# Altium schematic symbol library THD Voltage Reference and Regulators.SchLib: 227 symbols (part 1 of 2)
Pins are listed as number, name and electrical type; pins without a type are passive.

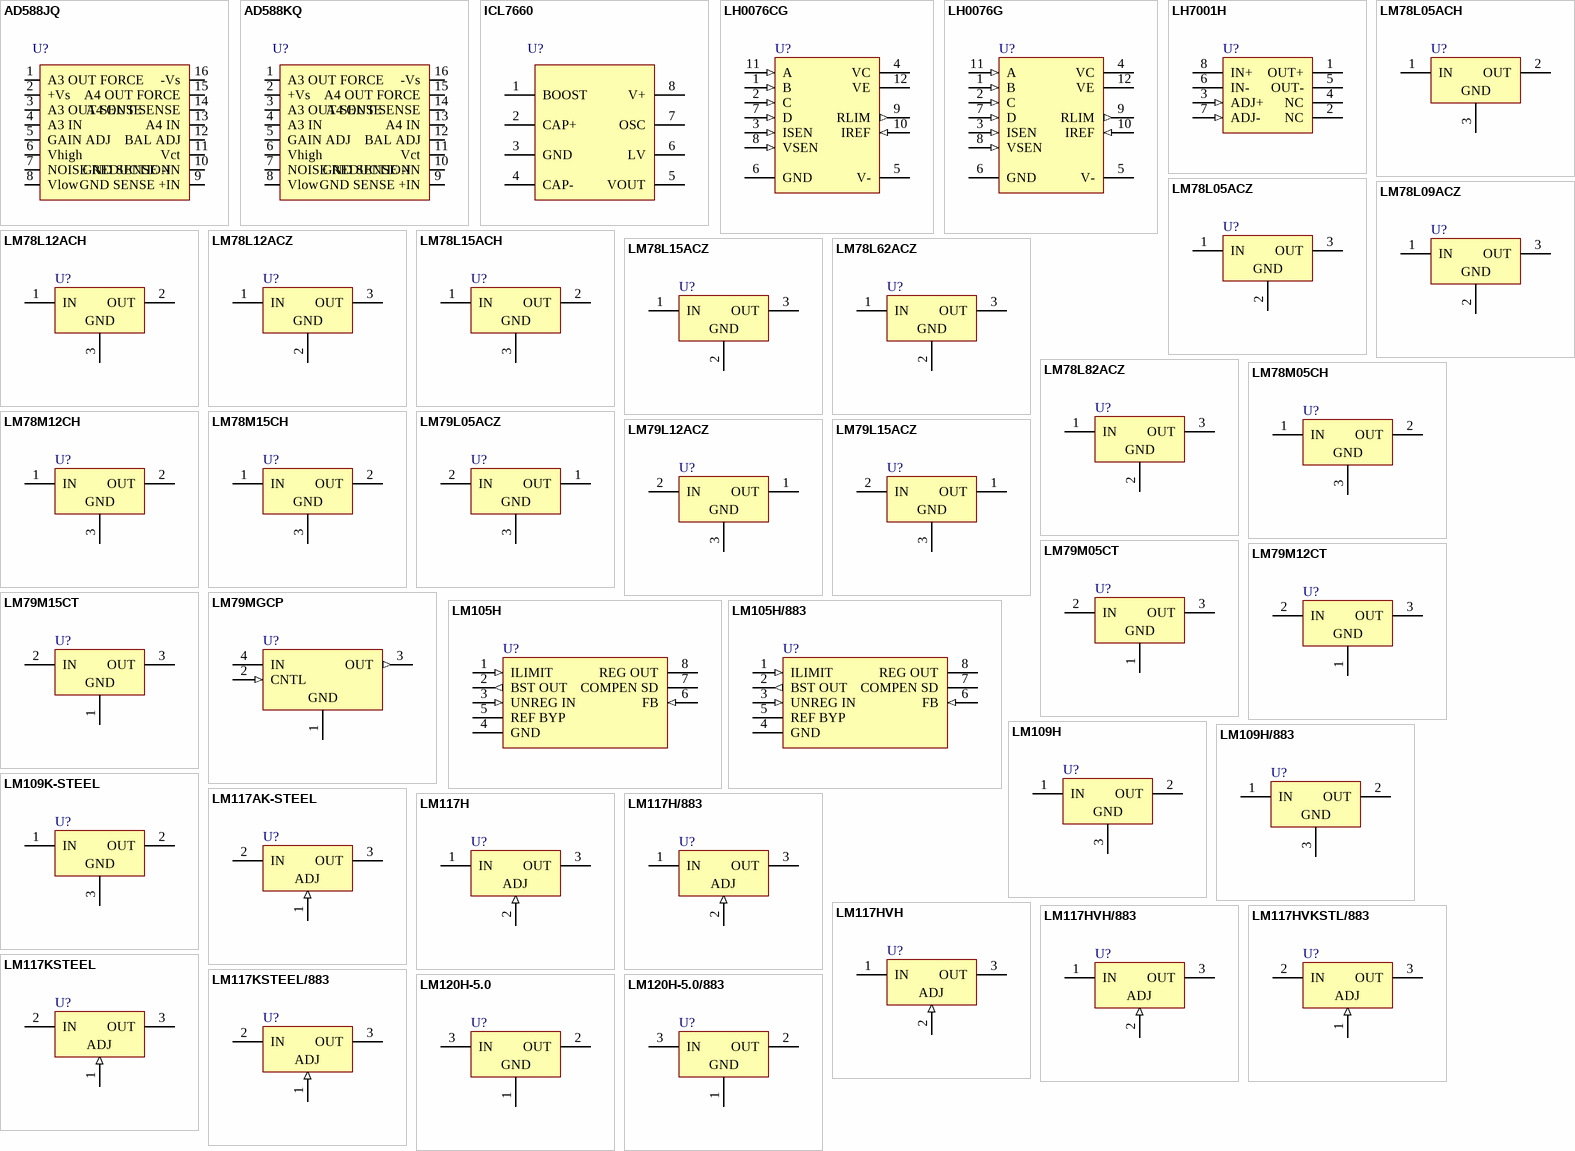
[diagram p0: symbols AD588JQ to LM120H-5.0/883]

## AD588JQ
designator U?
Multiple Output, High Precision, / Dual-Tracking Reference
footprint DIP16-300 (DIP, Molded; 16 Leads; Row Spacing 7.62 mm; Pitch 2.54 mm)
pins: 1 A3 OUT FORCE, 2 +Vs, 3 A3 OUT SENSE, 4 A3 IN, 5 GAIN ADJ, 6 Vhigh, 7 NOISE REDUCTION, 8 Vlow, 9 GND SENSE +IN, 10 GND SENSE -IN, 11 Vct, 12 BAL ADJ, 13 A4 IN, 14 A4 OUT SENSE, 15 A4 OUT FORCE, 16 -Vs

## AD588KQ
designator U?
Multiple Output, High Precision, / Dual-Tracking Reference
footprint DIP16-300 (DIP, Molded; 16 Leads; Row Spacing 7.62 mm; Pitch 2.54 mm)
pins: 1 A3 OUT FORCE, 2 +Vs, 3 A3 OUT SENSE, 4 A3 IN, 5 GAIN ADJ, 6 Vhigh, 7 NOISE REDUCTION, 8 Vlow, 9 GND SENSE +IN, 10 GND SENSE -IN, 11 Vct, 12 BAL ADJ, 13 A4 IN, 14 A4 OUT SENSE, 15 A4 OUT FORCE, 16 -Vs

## ICL7660
designator U?
Switched-Capacitor Voltage Converters
footprint DIP8-300 (DIP; 8 Leads; Row Spacing 7.62 mm; Pitch 2.54 mm)
pins: 1 BOOST (power), 2 CAP+ (power), 3 GND, 4 CAP-, 5 VOUT, 6 LV, 7 OSC, 8 V+

## LH0076CG
designator U?
Negative Precision Programmable Regulator; Manufacturer: National Semiconductor; Class: Power Management; SubClass: Voltage Regulator; Published: 15/04/2002; Publisher: Altium Hobart Technology Centre
footprint QCAN-12/D15.5
pins: 1 B (in), 2 C (in), 3 ISEN (in), 4 VC (power), 5 V- (power), 6 GND (power), 7 D (in), 8 VSEN (in), 9 RLIM (out), 10 IREF (in), 11 A (in), 12 VE (power)

## LH0076G
designator U?
Negative Precision Programmable Regulator; Manufacturer: National Semiconductor; Class: Power Management; SubClass: Voltage Regulator; Published: 15/04/2002; Publisher: Altium Hobart Technology Centre
footprint QCAN-12/D15.5
pins: 1 B (in), 2 C (in), 3 ISEN (in), 4 VC (power), 5 V- (power), 6 GND (power), 7 D (in), 8 VSEN (in), 9 RLIM (out), 10 IREF (in), 11 A (in), 12 VE (power)

## LH7001H
designator U?
Positive / Negative Adjustable Regulator; Manufacturer: National Semiconductor; Class: Power Management; SubClass: Voltage Regulator; Published: 15/04/2002; Publisher: Altium Hobart Technology Centre
footprint CAN-8/Y1.4
pins: 1 OUT+ (power), 2 NC, 3 ADJ+ (in), 4 NC, 5 OUT- (power), 6 IN- (power), 7 ADJ- (in), 8 IN+ (power)

## LM78L05ACH
designator U?
3-Terminal Positive Regulator; Manufacturer: National Semiconductor; Class: Power Management; SubClass: Voltage Regulator; Note: Case is connected to GND; Published: 15/04/2002; Publisher: Altium Hobart Technology Centre
footprint CAN-3/Y1.4
pins: 1 IN (power), 2 OUT (power), 3 GND (power)

## LM78L05ACZ
designator U?
3-Terminal Positive Regulator; Manufacturer: National Semiconductor; Class: Power Management; SubClass: Voltage Regulator; Published: 15/04/2002; Publisher: Altium Hobart Technology Centre
footprint BCY-W3/E3.7
pins: 1 IN (power), 2 GND (power), 3 OUT (power)

## LM78L09ACZ
designator U?
3-Terminal Positive Regulator; Manufacturer: National Semiconductor; Class: Power Management; SubClass: Voltage Regulator; Published: 15/04/2002; Publisher: Altium Hobart Technology Centre
footprint BCY-W3/E3.7
pins: 1 IN (power), 2 GND (power), 3 OUT (power)

## LM78L12ACH
designator U?
3-Terminal Positive Regulator; Manufacturer: National Semiconductor; Class: Power Management; SubClass: Voltage Regulator; Note: Case is connected to GND; Published: 15/04/2002; Publisher: Altium Hobart Technology Centre
footprint CAN-3/Y1.4
pins: 1 IN (power), 2 OUT (power), 3 GND (power)

## LM78L12ACZ
designator U?
3-Terminal Positive Regulator; Manufacturer: National Semiconductor; Class: Power Management; SubClass: Voltage Regulator; Published: 15/04/2002; Publisher: Altium Hobart Technology Centre
footprint BCY-W3/E3.7
pins: 1 IN (power), 2 GND (power), 3 OUT (power)

## LM78L15ACH
designator U?
3-Terminal Positive Regulator; Manufacturer: National Semiconductor; Class: Power Management; SubClass: Voltage Regulator; Note: Case is connected to GND; Published: 15/04/2002; Publisher: Altium Hobart Technology Centre
footprint CAN-3/Y1.4
pins: 1 IN (power), 2 OUT (power), 3 GND (power)

## LM78L15ACZ
designator U?
3-Terminal Positive Regulator; Manufacturer: National Semiconductor; Class: Power Management; SubClass: Voltage Regulator; Published: 15/04/2002; Publisher: Altium Hobart Technology Centre
footprint BCY-W3/E3.7
pins: 1 IN (power), 2 GND (power), 3 OUT (power)

## LM78L62ACZ
designator U?
3-Terminal Positive Regulator; Manufacturer: National Semiconductor; Class: Power Management; SubClass: Voltage Regulator; Published: 15/04/2002; Publisher: Altium Hobart Technology Centre
footprint BCY-W3/E3.7
pins: 1 IN (power), 2 GND (power), 3 OUT (power)

## LM78L82ACZ
designator U?
3-Terminal Positive Regulator; Manufacturer: National Semiconductor; Class: Power Management; SubClass: Voltage Regulator; Published: 15/04/2002; Publisher: Altium Hobart Technology Centre
footprint BCY-W3/E3.7
pins: 1 IN (power), 2 GND (power), 3 OUT (power)

## LM78M05CH
designator U?
3-Terminal Positive Voltage Regulator; Manufacturer: National Semiconductor; Class: Power Management; Note: Case is connected to GND; Published: 15/04/2002; Publisher: Altium Hobart Technology Centre; SubClass: Voltage Regulator
footprint CAN-3/Y1.4
pins: 1 IN (power), 2 OUT (power), 3 GND (power)

## LM78M12CH
designator U?
3-Terminal Positive Voltage Regulator; Manufacturer: National Semiconductor; Class: Power Management; Note: Case is connected to GND; Published: 15/04/2002; Publisher: Altium Hobart Technology Centre; SubClass: Voltage Regulator
footprint CAN-3/Y1.4
pins: 1 IN (power), 2 OUT (power), 3 GND (power)

## LM78M15CH
designator U?
3-Terminal Positive Voltage Regulator; Manufacturer: National Semiconductor; Class: Power Management; Note: Case is connected to GND; Published: 15/04/2002; Publisher: Altium Hobart Technology Centre; SubClass: Voltage Regulator
footprint CAN-3/Y1.4
pins: 1 IN (power), 2 OUT (power), 3 GND (power)

## LM79L05ACZ
designator U?
3-Terminal Negative Regulator; Manufacturer: National Semiconductor; Class: Power Management; SubClass: Voltage Regulator; Published: 15/04/2002; Publisher: Altium Hobart Technology Centre
footprint BCY-W3/E3.7
pins: 1 OUT (power), 2 IN (power), 3 GND (power)

## LM79L12ACZ
designator U?
3-Terminal Negative Regulator; Manufacturer: National Semiconductor; Class: Power Management; SubClass: Voltage Regulator; Published: 15/04/2002; Publisher: Altium Hobart Technology Centre
footprint BCY-W3/E3.7
pins: 1 OUT (power), 2 IN (power), 3 GND (power)

## LM79L15ACZ
designator U?
3-Terminal Negative Regulator; Manufacturer: National Semiconductor; Class: Power Management; SubClass: Voltage Regulator; Published: 15/04/2002; Publisher: Altium Hobart Technology Centre
footprint BCY-W3/E3.7
pins: 1 OUT (power), 2 IN (power), 3 GND (power)

## LM79M05CT
designator U?
3-Terminal Negative Regulator; Manufacturer: National Semiconductor; Class: Power Management; SubClass: Voltage Regulator; Note: Tab is connected to Input; Published: 15/04/2002; Publisher: Altium Hobart Technology Centre
footprint TO-220AB-Horizontal (TO, Thru-Hole, Vertical, Heatsink Mounted; 3 In-Line Leads; Pitch 2.54 mm)
footprint TO-220AB-Vertical (TO, Thru-Hole, Vertical, Heatsink Mounted; 3 In-Line Leads; Pitch 2.54 mm)
pins: 1 GND (power), 2 IN (power), 3 OUT (power)

## LM79M12CT
designator U?
3-Terminal Negative Regulator; Manufacturer: National Semiconductor; Class: Power Management; SubClass: Voltage Regulator; Note: Tab is connected to Input; Published: 15/04/2002; Publisher: Altium Hobart Technology Centre
footprint TO-220AB-Horizontal (TO, Thru-Hole, Vertical, Heatsink Mounted; 3 In-Line Leads; Pitch 2.54 mm)
footprint TO-220AB-Vertical (TO, Thru-Hole, Vertical, Heatsink Mounted; 3 In-Line Leads; Pitch 2.54 mm)
pins: 1 GND (power), 2 IN (power), 3 OUT (power)

## LM79M15CT
designator U?
3-Terminal Negative Regulator; Manufacturer: National Semiconductor; Class: Power Management; SubClass: Voltage Regulator; Note: Tab is connected to Input; Published: 15/04/2002; Publisher: Altium Hobart Technology Centre
footprint TO-220AB-Horizontal (TO, Thru-Hole, Vertical, Heatsink Mounted; 3 In-Line Leads; Pitch 2.54 mm)
footprint TO-220AB-Vertical (TO, Thru-Hole, Vertical, Heatsink Mounted; 3 In-Line Leads; Pitch 2.54 mm)
pins: 1 GND (power), 2 IN (power), 3 OUT (power)

## LM79MGCP
designator U?
4-Terminal Adjustable Voltage Regulator; Manufacturer: National Semiconductor; Class: Power Management; Note: Tab is connected to GND; Published: 15/04/2002; Publisher: Altium Hobart Technology Centre; SubClass: Voltage Regulator
footprint SFM-T4/A4.1V
pins: 1 GND (power), 2 CNTL (in), 3 OUT (out), 4 IN (power)

## LM105H
designator U?
Voltage Regulator; Manufacturer: National Semiconductor; Class: Power Management; Published: 15/04/2002; Publisher: Altium Hobart Technology Centre; SubClass: Voltage Regulator
footprint CAN-8/J.9
pins: 1 ILIMIT (in), 2 BST OUT (out), 3 UNREG IN (in), 4 GND (power), 5 REF BYP, 6 FB (in), 7 COMPEN SD, 8 REG OUT (power)

## LM105H/883
designator U?
Voltage Regulator; Manufacturer: National Semiconductor; Class: Power Management; Published: 15/04/2002; Publisher: Altium Hobart Technology Centre; SubClass: Voltage Regulator
footprint CAN-8/J.9
pins: 1 ILIMIT (in), 2 BST OUT (out), 3 UNREG IN (in), 4 GND (power), 5 REF BYP, 6 FB (in), 7 COMPEN SD, 8 REG OUT (power)

## LM109H
designator U?
5-Volt Regulator; Manufacturer: National Semiconductor; Class: Power Management; SubClass: Voltage Regulator; Note: Case is GND.; Published: 15/04/2002; Publisher: Altium Hobart Technology Centre
footprint CAN-3/Y1.4
pins: 1 IN (power), 2 OUT (power), 3 GND (power)

## LM109H/883
designator U?
5-Volt Regulator; Manufacturer: National Semiconductor; Class: Power Management; SubClass: Voltage Regulator; Note: Case is GND.; Published: 15/04/2002; Publisher: Altium Hobart Technology Centre
footprint CAN-3/Y1.4
pins: 1 IN (power), 2 OUT (power), 3 GND (power)

## LM109K-STEEL
designator U?
5-Volt Regulator; Manufacturer: National Semiconductor; Class: Power Management; SubClass: Voltage Regulator; Note: Case is GND.; Published: 15/04/2002; Publisher: Altium Hobart Technology Centre
footprint MBFM-P2/P7.25
pins: 1 IN (power), 2 OUT (power), 3 GND (power)

## LM117AK-STEEL
designator U?
3-Terminal Adjustable Regulator; Manufacturer: National Semiconductor; Class: Power Management; SubClass: Voltage Regulator; Note: Case is Output; Published: 15/04/2002; Publisher: Altium Hobart Technology Centre
footprint MBFM-P2/P7.25
pins: 1 ADJ (in), 2 IN (power), 3 OUT (power)

## LM117H
designator U?
3-Terminal Adjustable Regulator; Manufacturer: National Semiconductor; Class: Power Management; SubClass: Voltage Regulator; Note: Case is connected to Output; Published: 15/04/2002; Publisher: Altium Hobart Technology Centre
footprint CAN-3/Y1.4
pins: 1 IN (power), 2 ADJ (in), 3 OUT (power)

## LM117H/883
designator U?
3-Terminal Adjustable Regulator; Manufacturer: National Semiconductor; Class: Power Management; SubClass: Voltage Regulator; Note: Case is connected to Output; Published: 15/04/2002; Publisher: Altium Hobart Technology Centre
footprint CAN-3/Y1.4
pins: 1 IN (power), 2 ADJ (in), 3 OUT (power)

## LM117HVH
designator U?
3-Terminal Adjustable Regulator; Manufacturer: National Semiconductor; Class: Power Management; SubClass: Voltage Regulator; Note: Case is connected to Output; Published: 15/04/2002; Publisher: Altium Hobart Technology Centre
footprint CAN-3/Y1.4
pins: 1 IN (power), 2 ADJ (in), 3 OUT (power)

## LM117HVH/883
designator U?
3-Terminal Adjustable Regulator; Manufacturer: National Semiconductor; Class: Power Management; SubClass: Voltage Regulator; Note: Case is connected to Output; Published: 15/04/2002; Publisher: Altium Hobart Technology Centre
footprint CAN-3/Y1.4
pins: 1 IN (power), 2 ADJ (in), 3 OUT (power)

## LM117HVKSTL/883
designator U?
3-Terminal Adjustable Regulator; Manufacturer: National Semiconductor; Class: Power Management; SubClass: Voltage Regulator; Note: Case is Output; Published: 15/04/2002; Publisher: Altium Hobart Technology Centre
footprint MBFM-P2/P7.25
pins: 1 ADJ (in), 2 IN (power), 3 OUT (power)

## LM117KSTEEL
designator U?
3-Terminal Adjustable Regulator; Manufacturer: National Semiconductor; Class: Power Management; SubClass: Voltage Regulator; Note: Case is Output; Published: 15/04/2002; Publisher: Altium Hobart Technology Centre
footprint MBFM-P2/P7.25
pins: 1 ADJ (in), 2 IN (power), 3 OUT (power)

## LM117KSTEEL/883
designator U?
3-Terminal Adjustable Regulator; Manufacturer: National Semiconductor; Class: Power Management; SubClass: Voltage Regulator; Note: Case is Output; Published: 15/04/2002; Publisher: Altium Hobart Technology Centre
footprint MBFM-P2/P7.25
pins: 1 ADJ (in), 2 IN (power), 3 OUT (power)

## LM120H-5.0
designator U?
Series 3-Terminal Negative Regulator; Manufacturer: National Semiconductor; Class: Power Management; SubClass: Voltage Regulator; Note: Case is also Input; Published: 15/04/2002; Publisher: Altium Hobart Technology Centre
footprint CAN-3/Y1.4
pins: 1 GND (power), 2 OUT (power), 3 IN (power)

## LM120H-5.0/883
designator U?
Series 3-Terminal Negative Regulator; Manufacturer: National Semiconductor; Class: Power Management; SubClass: Voltage Regulator; Note: Case is connected to Input; Published: 15/04/2002; Publisher: Altium Hobart Technology Centre
footprint CAN-3/Y1.4
pins: 1 GND (power), 2 OUT (power), 3 IN (power)

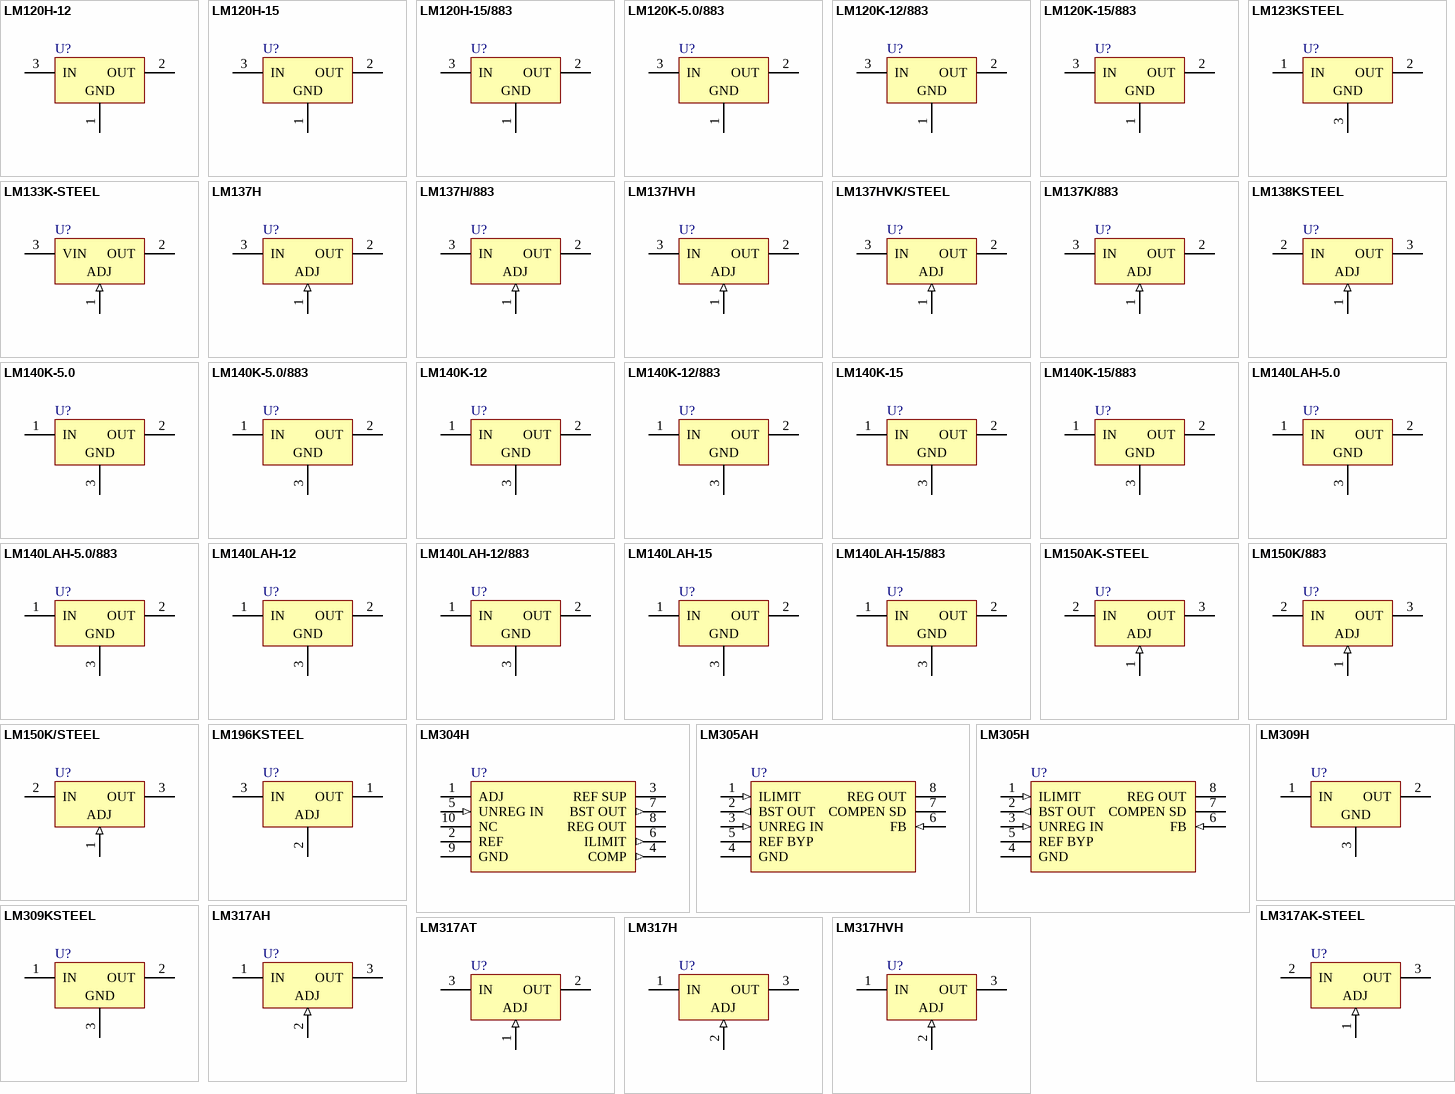
[diagram p1: symbols LM120H-12 to LM317HVH]

## LM120H-12
designator U?
Series 3-Terminal Negative Regulator; Manufacturer: National Semiconductor; Class: Power Management; SubClass: Voltage Regulator; Note: Case is also Input; Published: 15/04/2002; Publisher: Altium Hobart Technology Centre
footprint CAN-3/Y1.4
pins: 1 GND (power), 2 OUT (power), 3 IN (power)

## LM120H-15
designator U?
Series 3-Terminal Negative Regulator; Manufacturer: National Semiconductor; Class: Power Management; SubClass: Voltage Regulator; Note: Case is also Input; Published: 15/04/2002; Publisher: Altium Hobart Technology Centre
footprint CAN-3/Y1.4
pins: 1 GND (power), 2 OUT (power), 3 IN (power)

## LM120H-15/883
designator U?
Series 3-Terminal Negative Regulator; Manufacturer: National Semiconductor; Class: Power Management; SubClass: Voltage Regulator; Note: Case is also Input; Published: 15/04/2002; Publisher: Altium Hobart Technology Centre
footprint CAN-3/Y1.4
pins: 1 GND (power), 2 OUT (power), 3 IN (power)

## LM120K-5.0/883
designator U?
Series 3-Terminal Negative Regulator; Manufacturer: National Semiconductor; Class: Power Management; SubClass: Voltage Regulator; Note: Case is also Input; Published: 15/04/2002; Publisher: Altium Hobart Technology Centre
footprint MBFM-P2/P7.25
pins: 1 GND (power), 2 OUT (power), 3 IN (power)

## LM120K-12/883
designator U?
Series 3-Terminal Negative Regulator; Manufacturer: National Semiconductor; Class: Power Management; SubClass: Voltage Regulator; Note: Case is also Input; Published: 15/04/2002; Publisher: Altium Hobart Technology Centre
footprint MBFM-P2/P7.25
pins: 1 GND (power), 2 OUT (power), 3 IN (power)

## LM120K-15/883
designator U?
Series 3-Terminal Negative Regulator; Manufacturer: National Semiconductor; Class: Power Management; SubClass: Voltage Regulator; Note: Case is also Input; Published: 15/04/2002; Publisher: Altium Hobart Technology Centre
footprint MBFM-P2/P7.25
pins: 1 GND (power), 2 OUT (power), 3 IN (power)

## LM123KSTEEL
designator U?
3 Amp, 5 Volt Positive Regulator; Manufacturer: National Semiconductor; Class: Power Management; SubClass: Voltage Regulator; Note: Case is also Ground; Published: 15/04/2002; Publisher: Altium Hobart Technology Centre
footprint MBFM-P2/P7.25
pins: 1 IN (power), 2 OUT (power), 3 GND (power)

## LM133K-STEEL
designator U?
3 Amp Adjustable Negative Regulator; Manufacturer: National Semiconductor; Class: Power Management; SubClass: Voltage Regulator; Note: Case is -Vin,; Published: 15/04/2002; Publisher: Altium Hobart Technology Centre
footprint MBFM-P2/P7.25
pins: 1 ADJ (in), 2 OUT (power), 3 VIN (power)

## LM137H
designator U?
3-Terminal Adjustable Negative Regulator; Manufacturer: National Semiconductor; Class: Power Management; SubClass: Voltage Regulator; Note: Case is connected to Input; Published: 15/04/2002; Publisher: Altium Hobart Technology Centre
footprint CAN-3/Y1.4
pins: 1 ADJ (in), 2 OUT (power), 3 IN (power)

## LM137H/883
designator U?
3-Terminal Adjustable Negative Regulator; Manufacturer: National Semiconductor; Class: Power Management; SubClass: Voltage Regulator; Note: Case is connected to Input; Published: 15/04/2002; Publisher: Altium Hobart Technology Centre
footprint CAN-3/Y1.4
pins: 1 ADJ (in), 2 OUT (power), 3 IN (power)

## LM137HVH
designator U?
3-Terminal Adjustable Negative Regulator; Manufacturer: National Semiconductor; Class: Power Management; SubClass: Voltage Regulator; Note: Case is connected to Input; Published: 15/04/2002; Publisher: Altium Hobart Technology Centre
footprint CAN-3/Y1.4
pins: 1 ADJ (in), 2 OUT (power), 3 IN (power)

## LM137HVK/STEEL
designator U?
3-Terminal Adjustable Negative Regulator; Manufacturer: National Semiconductor; Class: Power Management; SubClass: Voltage Regulator; Note: Case is Input; Published: 15/04/2002; Publisher: Altium Hobart Technology Centre
footprint MBFM-P2/P7.25
pins: 1 ADJ (in), 2 OUT (power), 3 IN (power)

## LM137K/883
designator U?
3-Terminal Adjustable Negative Regulator; Manufacturer: National Semiconductor; Class: Power Management; SubClass: Voltage Regulator; Published: 15/04/2002; Publisher: Altium Hobart Technology Centre
footprint MBFM-P2/P7.25
pins: 1 ADJ (in), 2 OUT (power), 3 IN (power)

## LM138KSTEEL
designator U?
5 Amp Adjustable Regulator; Manufacturer: National Semiconductor; Class: Power Management; SubClass: Voltage Regulator; Note: Case is Output; Published: 15/04/2002; Publisher: Altium Hobart Technology Centre
footprint MBFM-P2/P7.25
pins: 1 ADJ (in), 2 IN (power), 3 OUT (power)

## LM140K-5.0
designator U?
Series 3-Terminal Positive Regulator; Manufacturer: National Semiconductor; Class: Power Management; SubClass: Voltage Regulator; Note: Case is Ground; Published: 15/04/2002; Publisher: Altium Hobart Technology Centre
footprint MBFM-P2/P7.25
pins: 1 IN (power), 2 OUT (power), 3 GND (power)

## LM140K-5.0/883
designator U?
Series 3-Terminal Positive Regulator; Manufacturer: National Semiconductor; Class: Power Management; SubClass: Voltage Regulator; Note: Case is Ground; Published: 15/04/2002; Publisher: Altium Hobart Technology Centre
footprint MBFM-P2/P7.25
pins: 1 IN (power), 2 OUT (power), 3 GND (power)

## LM140K-12
designator U?
Series 3-Terminal Positive Regulator; Manufacturer: National Semiconductor; Class: Power Management; SubClass: Voltage Regulator; Note: Case is Ground; Published: 15/04/2002; Publisher: Altium Hobart Technology Centre
footprint MBFM-P2/P7.25
pins: 1 IN (power), 2 OUT (power), 3 GND (power)

## LM140K-12/883
designator U?
Series 3-Terminal Positive Regulator; Manufacturer: National Semiconductor; Class: Power Management; SubClass: Voltage Regulator; Note: Case is Ground; Published: 15/04/2002; Publisher: Altium Hobart Technology Centre
footprint MBFM-P2/P7.25
pins: 1 IN (power), 2 OUT (power), 3 GND (power)

## LM140K-15
designator U?
Series 3-Terminal Positive Regulator; Manufacturer: National Semiconductor; Class: Power Management; SubClass: Voltage Regulator; Note: Case is Ground; Published: 15/04/2002; Publisher: Altium Hobart Technology Centre
footprint MBFM-P2/P7.25
pins: 1 IN (power), 2 OUT (power), 3 GND (power)

## LM140K-15/883
designator U?
Series 3-Terminal Positive Regulator; Manufacturer: National Semiconductor; Class: Power Management; SubClass: Voltage Regulator; Note: Case is Ground; Published: 15/04/2002; Publisher: Altium Hobart Technology Centre
footprint MBFM-P2/P7.25
pins: 1 IN (power), 2 OUT (power), 3 GND (power)

## LM140LAH-5.0
designator U?
Series 3-Terminal Positive Regulator; Manufacturer: National Semiconductor; Class: Power Management; SubClass: Voltage Regulator; Note: Case is connected to GND; Published: 15/04/2002; Publisher: Altium Hobart Technology Centre
footprint CAN-3/Y1.4
pins: 1 IN (power), 2 OUT (power), 3 GND (power)

## LM140LAH-5.0/883
designator U?
Series 3-Terminal Positive Regulator; Manufacturer: National Semiconductor; Class: Power Management; SubClass: Voltage Regulator; Note: Case is connected to GND; Published: 15/04/2002; Publisher: Altium Hobart Technology Centre
footprint CAN-3/Y1.4
pins: 1 IN (power), 2 OUT (power), 3 GND (power)

## LM140LAH-12
designator U?
Series 3-Terminal Positive Regulator; Manufacturer: National Semiconductor; Class: Power Management; SubClass: Voltage Regulator; Note: Case is connected to GND; Published: 15/04/2002; Publisher: Altium Hobart Technology Centre
footprint CAN-3/Y1.4
pins: 1 IN (power), 2 OUT (power), 3 GND (power)

## LM140LAH-12/883
designator U?
Series 3-Terminal Positive Regulator; Manufacturer: National Semiconductor; Class: Power Management; SubClass: Voltage Regulator; Note: Case is connected to GND; Published: 15/04/2002; Publisher: Altium Hobart Technology Centre
footprint CAN-3/Y1.4
pins: 1 IN (power), 2 OUT (power), 3 GND (power)

## LM140LAH-15
designator U?
Series 3-Terminal Positive Regulator; Manufacturer: National Semiconductor; Class: Power Management; SubClass: Voltage Regulator; Note: Case is connected to GND; Published: 15/04/2002; Publisher: Altium Hobart Technology Centre
footprint CAN-3/Y1.4
pins: 1 IN (power), 2 OUT (power), 3 GND (power)

## LM140LAH-15/883
designator U?
Series 3-Terminal Positive Regulator; Manufacturer: National Semiconductor; Class: Power Management; SubClass: Voltage Regulator; Note: Case is connected to GND; Published: 15/04/2002; Publisher: Altium Hobart Technology Centre
footprint CAN-3/Y1.4
pins: 1 IN (power), 2 OUT (power), 3 GND (power)

## LM150AK-STEEL
designator U?
3 Amp Adjustable Regulator; Manufacturer: National Semiconductor; Class: Power Management; SubClass: Voltage Regulator; Note: Case is Output; Published: 15/04/2002; Publisher: Altium Hobart Technology Centre
footprint MBFM-P2/P7.25
pins: 1 ADJ (in), 2 IN (power), 3 OUT (power)

## LM150K/883
designator U?
3 Amp Adjustable Regulator; Manufacturer: National Semiconductor; Class: Power Management; SubClass: Voltage Regulator; Note: Case is Output.; Published: 15/04/2002; Publisher: Altium Hobart Technology Centre
footprint MBFM-P2/P7.25
pins: 1 ADJ (in), 2 IN (power), 3 OUT (power)

## LM150K/STEEL
designator U?
3 Amp Adjustable Regulator; Manufacturer: National Semiconductor; Class: Power Management; SubClass: Voltage Regulator; Note: Case is Output.; Published: 15/04/2002; Publisher: Altium Hobart Technology Centre
footprint MBFM-P2/P7.25
pins: 1 ADJ (in), 2 IN (power), 3 OUT (power)

## LM196KSTEEL
designator U?
10 Amp Adjustable Voltage Regulator; Manufacturer: National Semiconductor; Class: Power Management; Published: 15/04/2002; Publisher: Altium Hobart Technology Centre; SubClass: Voltage Regulator
footprint MBFM-P2/R13
pins: 1 OUT (power), 2 ADJ (power), 3 IN (power)

## LM304H
designator U?
Negative Regulator; Manufacturer: National Semiconductor; Class: Power Management; SubClass: Voltage Regulator; Note: Case is connected to Input; Published: 15/04/2002; Publisher: Altium Hobart Technology Centre
footprint CAN-10/X1.4
pins: 1 ADJ, 2 REF, 3 REF SUP (power), 4 COMP (out), 5 UNREG IN (in), 6 ILIMIT (out), 7 BST OUT (out), 8 REG OUT (power), 9 GND (power), 10 NC

## LM305AH
designator U?
Voltage Regulator; Manufacturer: National Semiconductor; Class: Power Management; Published: 15/04/2002; Publisher: Altium Hobart Technology Centre; SubClass: Voltage Regulator
footprint CAN-8/J.9
pins: 1 ILIMIT (in), 2 BST OUT (out), 3 UNREG IN (in), 4 GND (power), 5 REF BYP, 6 FB (in), 7 COMPEN SD, 8 REG OUT (power)

## LM305H
designator U?
Voltage Regulator; Manufacturer: National Semiconductor; Class: Power Management; Published: 15/04/2002; Publisher: Altium Hobart Technology Centre; SubClass: Voltage Regulator
footprint CAN-8/J.9
pins: 1 ILIMIT (in), 2 BST OUT (out), 3 UNREG IN (in), 4 GND (power), 5 REF BYP, 6 FB (in), 7 COMPEN SD, 8 REG OUT (power)

## LM309H
designator U?
5 Volt Regulator; Manufacturer: National Semiconductor; Class: Power Management; SubClass: Voltage Regulator; Note: Case is connected to GND; Published: 15/04/2002; Publisher: Altium Hobart Technology Centre
footprint CAN-3/Y1.4
pins: 1 IN (power), 2 OUT (power), 3 GND (power)

## LM309KSTEEL
designator U?
5 Volt Regulator; Manufacturer: National Semiconductor; Class: Power Management; SubClass: Voltage Regulator; Note: Case is GND; Published: 15/04/2002; Publisher: Altium Hobart Technology Centre
footprint MBFM-P2/P7.25
pins: 1 IN (power), 2 OUT (power), 3 GND (power)

## LM317AH
designator U?
3-Terminal Adjustable Regulator; Manufacturer: National Semiconductor; Class: Power Management; SubClass: Voltage Regulator; Note: Case is connected to Output; Published: 15/04/2002; Publisher: Altium Hobart Technology Centre
footprint CAN-3/Y1.4
pins: 1 IN (power), 2 ADJ (in), 3 OUT (power)

## LM317AK-STEEL
designator U?
3-Terminal Adjustable Regulator; Manufacturer: National Semiconductor; Class: Power Management; SubClass: Voltage Regulator; Note: Case is Output; Published: 15/04/2002; Publisher: Altium Hobart Technology Centre
footprint MBFM-P2/P7.25
pins: 1 ADJ (in), 2 IN (power), 3 OUT (power)

## LM317AT
designator U?
3-Terminal Adjustable Regulator; Manufacturer: National Semiconductor; Class: Power Management; SubClass: Voltage Regulator; Published: 15/04/2002; Publisher: Altium Hobart Technology Centre
footprint SFM-T3/A4.7V
pins: 1 ADJ (in), 2 OUT (power), 3 IN (power)

## LM317H
designator U?
3-Terminal Adjustable Regulator; Manufacturer: National Semiconductor; Class: Power Management; SubClass: Voltage Regulator; Note: Case is connected to Output; Published: 15/04/2002; Publisher: Altium Hobart Technology Centre
footprint CAN-3/Y1.4
pins: 1 IN (power), 2 ADJ (in), 3 OUT (power)

## LM317HVH
designator U?
3-Terminal Adjustable Regulator; Manufacturer: National Semiconductor; Class: Power Management; SubClass: Voltage Regulator; Note: Case is connected to Output; Published: 15/04/2002; Publisher: Altium Hobart Technology Centre
footprint CAN-3/Y1.4
pins: 1 IN (power), 2 ADJ (in), 3 OUT (power)

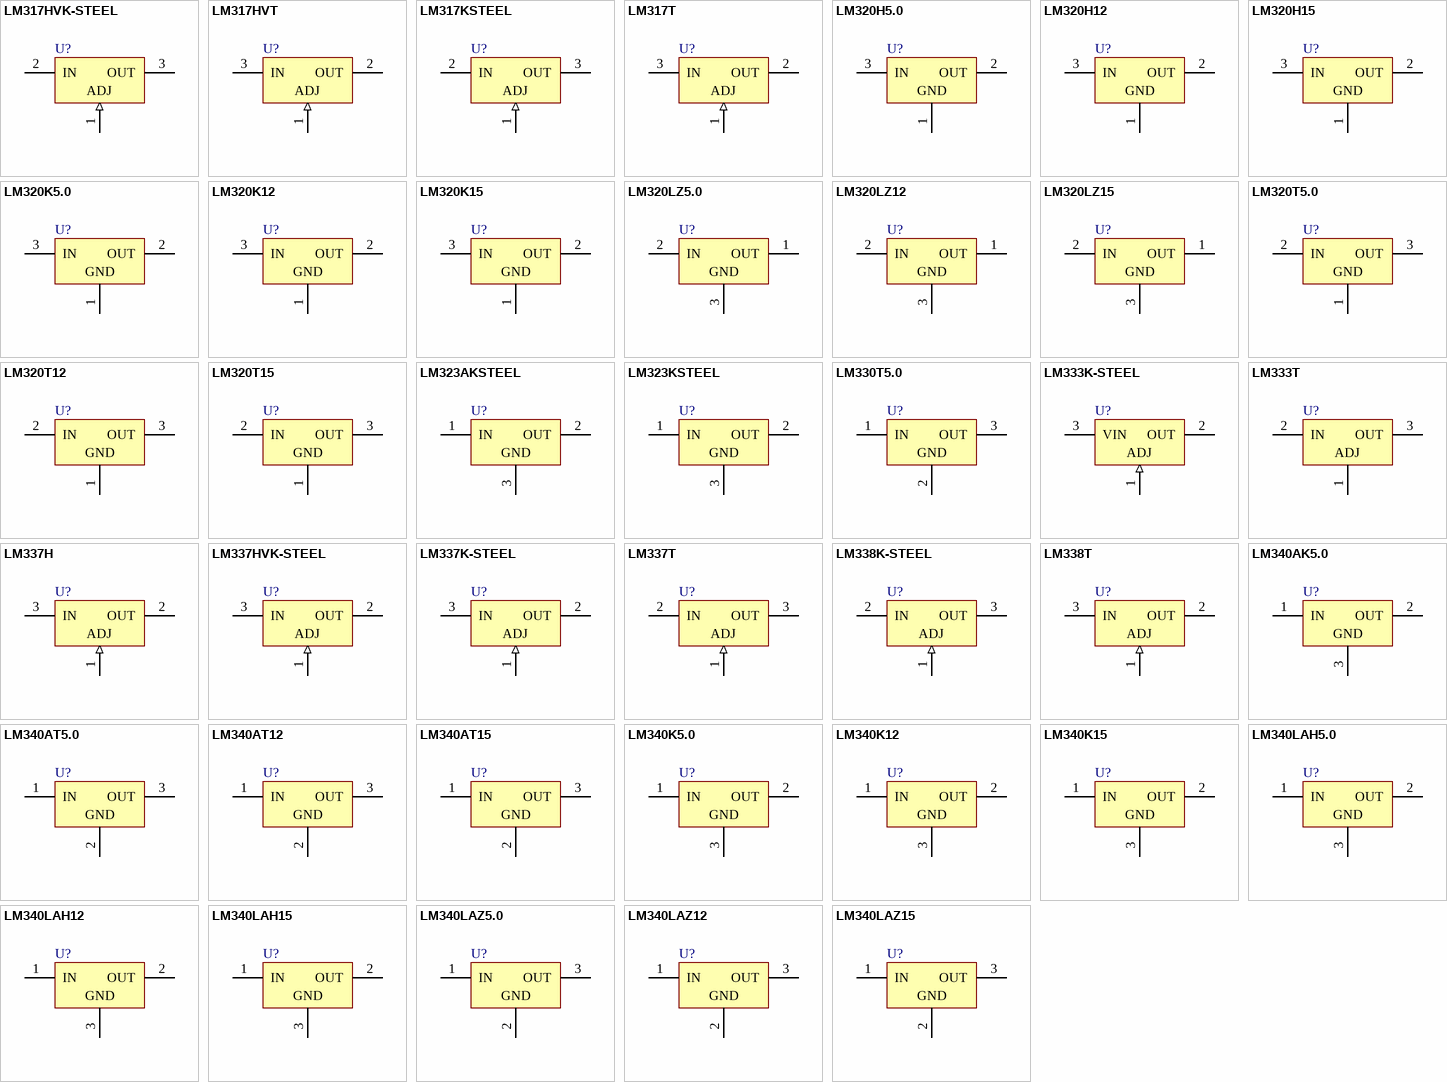
[diagram p2: symbols LM317HVK-STEEL to LM340LAZ15]

## LM317HVK-STEEL
designator U?
3-Terminal Adjustable Regulator; Manufacturer: National Semiconductor; Class: Power Management; SubClass: Voltage Regulator; Note: Case is Output; Published: 15/04/2002; Publisher: Altium Hobart Technology Centre
footprint MBFM-P2/P7.25
pins: 1 ADJ (in), 2 IN (power), 3 OUT (power)

## LM317HVT
designator U?
3-Terminal Adjustable Regulator; Manufacturer: National Semiconductor; Class: Power Management; SubClass: Voltage Regulator; Note: Tab is connected to Output; Published: 15/04/2002; Publisher: Altium Hobart Technology Centre
footprint SFM-T3/A4.7V
pins: 1 ADJ (in), 2 OUT (power), 3 IN (power)

## LM317KSTEEL
designator U?
3-Terminal Adjustable Regulator; Manufacturer: National Semiconductor; Class: Power Management; SubClass: Voltage Regulator; Note: Case is Output; Published: 15/04/2002; Publisher: Altium Hobart Technology Centre
footprint MBFM-P2/P7.25
pins: 1 ADJ (in), 2 IN (power), 3 OUT (power)

## LM317T
designator U?
3-Terminal Adjustable Regulator; Manufacturer: National Semiconductor; Class: Power Management; SubClass: Voltage Regulator; Published: 15/04/2002; Publisher: Altium Hobart Technology Centre
footprint SFM-T3/A4.7V
pins: 1 ADJ (in), 2 OUT (power), 3 IN (power)

## LM320H5.0
designator U?
Series 3-Terminal Negative Regulator; Manufacturer: National Semiconductor; Class: Power Management; SubClass: Voltage Regulator; Note: Case is also Input; Published: 15/04/2002; Publisher: Altium Hobart Technology Centre
footprint CAN-3/Y1.4
pins: 1 GND (power), 2 OUT (power), 3 IN (power)

## LM320H12
designator U?
Series 3-Terminal Negative Regulator; Manufacturer: National Semiconductor; Class: Power Management; SubClass: Voltage Regulator; Note: Case is also Input; Published: 15/04/2002; Publisher: Altium Hobart Technology Centre
footprint CAN-3/Y1.4
pins: 1 GND (power), 2 OUT (power), 3 IN (power)

## LM320H15
designator U?
Series 3-Terminal Negative Regulator; Manufacturer: National Semiconductor; Class: Power Management; SubClass: Voltage Regulator; Note: Case is also Input; Published: 15/04/2002; Publisher: Altium Hobart Technology Centre
footprint CAN-3/Y1.4
pins: 1 GND (power), 2 OUT (power), 3 IN (power)

## LM320K5.0
designator U?
Series 3-Terminal Negative Regulator; Manufacturer: National Semiconductor; Class: Power Management; SubClass: Voltage Regulator; Note: Case is also Input; Published: 15/04/2002; Publisher: Altium Hobart Technology Centre
footprint MBFM-P2/P7.25
pins: 1 GND (power), 2 OUT (power), 3 IN (power)

## LM320K12
designator U?
Series 3-Terminal Negative Regulator; Manufacturer: National Semiconductor; Class: Power Management; SubClass: Voltage Regulator; Note: Case is also Input; Published: 15/04/2002; Publisher: Altium Hobart Technology Centre
footprint MBFM-P2/P7.25
pins: 1 GND (power), 2 OUT (power), 3 IN (power)

## LM320K15
designator U?
Series 3-Terminal Negative Regulator; Manufacturer: National Semiconductor; Class: Power Management; SubClass: Voltage Regulator; Note: Case is also Input; Published: 15/04/2002; Publisher: Altium Hobart Technology Centre
footprint MBFM-P2/P7.25
pins: 1 GND (power), 2 OUT (power), 3 IN (power)

## LM320LZ5.0
designator U?
3-Terminal Negative Regulator; Manufacturer: National Semiconductor; Class: Power Management; SubClass: Voltage Regulator; Published: 15/04/2002; Publisher: Altium Hobart Technology Centre
footprint BCY-W3/E3.7
pins: 1 OUT (power), 2 IN (power), 3 GND (power)

## LM320LZ12
designator U?
3-Terminal Negative Regulator; Manufacturer: National Semiconductor; Class: Power Management; SubClass: Voltage Regulator; Published: 15/04/2002; Publisher: Altium Hobart Technology Centre
footprint BCY-W3/E3.7
pins: 1 OUT (power), 2 IN (power), 3 GND (power)

## LM320LZ15
designator U?
3-Terminal Negative Regulator; Manufacturer: National Semiconductor; Class: Power Management; SubClass: Voltage Regulator; Published: 15/04/2002; Publisher: Altium Hobart Technology Centre
footprint BCY-W3/E3.7
pins: 1 OUT (power), 2 IN (power), 3 GND (power)

## LM320T5.0
designator U?
Series 3-Terminal Negative Regulator; Manufacturer: National Semiconductor; Class: Power Management; SubClass: Voltage Regulator; Note: Tab is connected to Input; Published: 15/04/2002; Publisher: Altium Hobart Technology Centre
footprint SFM-T3/A4.7V
pins: 1 GND (power), 2 IN (power), 3 OUT (power)

## LM320T12
designator U?
Series 3-Terminal Negative Regulator; Manufacturer: National Semiconductor; Class: Power Management; SubClass: Voltage Regulator; Note: Tab is connected to Input; Published: 15/04/2002; Publisher: Altium Hobart Technology Centre
footprint SFM-T3/A4.7V
pins: 1 GND (power), 2 IN (power), 3 OUT (power)

## LM320T15
designator U?
Series 3-Terminal Negative Regulator; Manufacturer: National Semiconductor; Class: Power Management; SubClass: Voltage Regulator; Note: Tab is connected to Input; Published: 15/04/2002; Publisher: Altium Hobart Technology Centre
footprint SFM-T3/A4.7V
pins: 1 GND (power), 2 IN (power), 3 OUT (power)

## LM323AKSTEEL
designator U?
3 Amp, 5 Volt Positive Regulator; Manufacturer: National Semiconductor; Class: Power Management; SubClass: Voltage Regulator; Note: Case is GND; Published: 15/04/2002; Publisher: Altium Hobart Technology Centre
footprint MBFM-P2/P7.25
pins: 1 IN (power), 2 OUT (power), 3 GND (power)

## LM323KSTEEL
designator U?
3 Amp, 5 Volt Positive Regulator; Manufacturer: National Semiconductor; Class: Power Management; SubClass: Voltage Regulator; Note: Case is also Ground; Published: 15/04/2002; Publisher: Altium Hobart Technology Centre
footprint MBFM-P2/P7.25
pins: 1 IN (power), 2 OUT (power), 3 GND (power)

## LM330T5.0
designator U?
3-Terminal Positive Regulator; Manufacturer: National Semiconductor; Class: Power Management; SubClass: Voltage Regulator; Note: Tab is connected to GND; Published: 15/04/2002; Publisher: Altium Hobart Technology Centre
footprint SFM-T3/A4.7V
pins: 1 IN (power), 2 GND (power), 3 OUT (power)

## LM333K-STEEL
designator U?
3 Amp Adjustable Negative Regulator; Manufacturer: National Semiconductor; Class: Power Management; SubClass: Voltage Regulator; Note: Case is -Vin,; Published: 15/04/2002; Publisher: Altium Hobart Technology Centre
footprint MBFM-P2/P7.25
pins: 1 ADJ (in), 2 OUT (power), 3 VIN (power)

## LM333T
designator U?
3 Amp Adjustable Negative Regulator; Manufacturer: National Semiconductor; Class: Power Management; SubClass: Voltage Regulator; Note: Tab is -Vin; Published: 15/04/2002; Publisher: Altium Hobart Technology Centre
footprint SFM-T3/A4.7V
pins: 1 ADJ (power), 2 IN (power), 3 OUT (power)

## LM337H
designator U?
3-Terminal Adjustable Negative Regulator; Manufacturer: National Semiconductor; Class: Power Management; SubClass: Voltage Regulator; Note: Case is connected to Input; Published: 15/04/2002; Publisher: Altium Hobart Technology Centre
footprint CAN-3/Y1.4
pins: 1 ADJ (in), 2 OUT (power), 3 IN (power)

## LM337HVK-STEEL
designator U?
3-Terminal Adjustable Negative Regulator; Manufacturer: National Semiconductor; Class: Power Management; SubClass: Voltage Regulator; Published: 15/04/2002; Publisher: Altium Hobart Technology Centre
footprint MBFM-P2/P7.25
pins: 1 ADJ (in), 2 OUT (power), 3 IN (power)

## LM337K-STEEL
designator U?
3-Terminal Adjustable Negative Regulator; Manufacturer: National Semiconductor; Class: Power Management; SubClass: Voltage Regulator; Note: Case is Input; Published: 15/04/2002; Publisher: Altium Hobart Technology Centre
footprint MBFM-P2/P7.25
pins: 1 ADJ (in), 2 OUT (power), 3 IN (power)

## LM337T
designator U?
3-Terminal Adjustable Negative Regulator; Manufacturer: National Semiconductor; Class: Power Management; SubClass: Voltage Regulator; Note: Case is connected to Input; Published: 15/04/2002; Publisher: Altium Hobart Technology Centre
footprint SFM-T3/A4.7V
pins: 1 ADJ (in), 2 IN (power), 3 OUT (power)

## LM338K-STEEL
designator U?
5 Amp Adjustable Regulator; Manufacturer: National Semiconductor; Class: Power Management; SubClass: Voltage Regulator; Note: Case is Output; Published: 15/04/2002; Publisher: Altium Hobart Technology Centre
footprint MBFM-P2/P7.25
pins: 1 ADJ (in), 2 IN (power), 3 OUT (power)

## LM338T
designator U?
5 Amp Adjustable Regulator; Manufacturer: National Semiconductor; Class: Power Management; SubClass: Voltage Regulator; Note: Tab is connected to Output; Published: 15/04/2002; Publisher: Altium Hobart Technology Centre
footprint SFM-T3/A4.7V
pins: 1 ADJ (in), 2 OUT (power), 3 IN (power)

## LM340AK5.0
designator U?
Series 3-Terminal Positive Regulator; Manufacturer: National Semiconductor; Class: Power Management; SubClass: Voltage Regulator; Published: 15/04/2002; Publisher: Altium Hobart Technology Centre
footprint MBFM-P2/P7.25
pins: 1 IN (power), 2 OUT (power), 3 GND (power)

## LM340AT5.0
designator U?
Series 3-Terminal Positive Regulator; Manufacturer: National Semiconductor; Class: Power Management; SubClass: Voltage Regulator; Note: Tab is connected to GND; Published: 15/04/2002; Publisher: Altium Hobart Technology Centre
footprint SFM-T3/A4.7V
pins: 1 IN (power), 2 GND (power), 3 OUT (power)

## LM340AT12
designator U?
Series 3-Terminal Positive Regulator; Manufacturer: National Semiconductor; Class: Power Management; SubClass: Voltage Regulator; Note: Tab is connected to GND; Published: 15/04/2002; Publisher: Altium Hobart Technology Centre
footprint SFM-T3/A4.7V
pins: 1 IN (power), 2 GND (power), 3 OUT (power)

## LM340AT15
designator U?
Series 3-Terminal Positive Regulator; Manufacturer: National Semiconductor; Class: Power Management; SubClass: Voltage Regulator; Note: Tab is connected to GND; Published: 15/04/2002; Publisher: Altium Hobart Technology Centre
footprint SFM-T3/A4.7V
pins: 1 IN (power), 2 GND (power), 3 OUT (power)

## LM340K5.0
designator U?
Series 3-Terminal Positive Regulator; Manufacturer: National Semiconductor; Class: Power Management; SubClass: Voltage Regulator; Note: Case is Ground; Published: 15/04/2002; Publisher: Altium Hobart Technology Centre
footprint MBFM-P2/P7.25
pins: 1 IN (power), 2 OUT (power), 3 GND (power)

## LM340K12
designator U?
Series 3-Terminal Positive Regulator; Manufacturer: National Semiconductor; Class: Power Management; SubClass: Voltage Regulator; Note: Case is Ground; Published: 15/04/2002; Publisher: Altium Hobart Technology Centre
footprint MBFM-P2/P7.25
pins: 1 IN (power), 2 OUT (power), 3 GND (power)

## LM340K15
designator U?
Series 3-Terminal Positive Regulator; Manufacturer: National Semiconductor; Class: Power Management; SubClass: Voltage Regulator; Note: Case is Ground; Published: 15/04/2002; Publisher: Altium Hobart Technology Centre
footprint MBFM-P2/P7.25
pins: 1 IN (power), 2 OUT (power), 3 GND (power)

## LM340LAH5.0
designator U?
Series 3-Terminal Positive Regulator; Manufacturer: National Semiconductor; Class: Power Management; SubClass: Voltage Regulator; Note: Case is connected to GND; Published: 15/04/2002; Publisher: Altium Hobart Technology Centre
footprint CAN-3/Y1.4
pins: 1 IN (power), 2 OUT (power), 3 GND (power)

## LM340LAH12
designator U?
Series 3-Terminal Positive Regulator; Manufacturer: National Semiconductor; Class: Power Management; SubClass: Voltage Regulator; Note: Case is connected to GND; Published: 15/04/2002; Publisher: Altium Hobart Technology Centre
footprint CAN-3/Y1.4
pins: 1 IN (power), 2 OUT (power), 3 GND (power)

## LM340LAH15
designator U?
Series 3-Terminal Positive Regulator; Manufacturer: National Semiconductor; Class: Power Management; SubClass: Voltage Regulator; Note: Case is connected to GND; Published: 15/04/2002; Publisher: Altium Hobart Technology Centre
footprint CAN-3/Y1.4
pins: 1 IN (power), 2 OUT (power), 3 GND (power)

## LM340LAZ5.0
designator U?
Series 3-Terminal Positive Regulator; Manufacturer: National Semiconductor; Class: Power Management; SubClass: Voltage Regulator; Published: 15/04/2002; Publisher: Altium Hobart Technology Centre
footprint BCY-W3/E3.7
pins: 1 IN (power), 2 GND (power), 3 OUT (power)

## LM340LAZ12
designator U?
Series 3-Terminal Positive Regulator; Manufacturer: National Semiconductor; Class: Power Management; SubClass: Voltage Regulator; Published: 15/04/2002; Publisher: Altium Hobart Technology Centre
footprint BCY-W3/E3.7
pins: 1 IN (power), 2 GND (power), 3 OUT (power)

## LM340LAZ15
designator U?
Series 3-Terminal Positive Regulator; Manufacturer: National Semiconductor; Class: Power Management; SubClass: Voltage Regulator; Published: 15/04/2002; Publisher: Altium Hobart Technology Centre
footprint BCY-W3/E3.7
pins: 1 IN (power), 2 GND (power), 3 OUT (power)

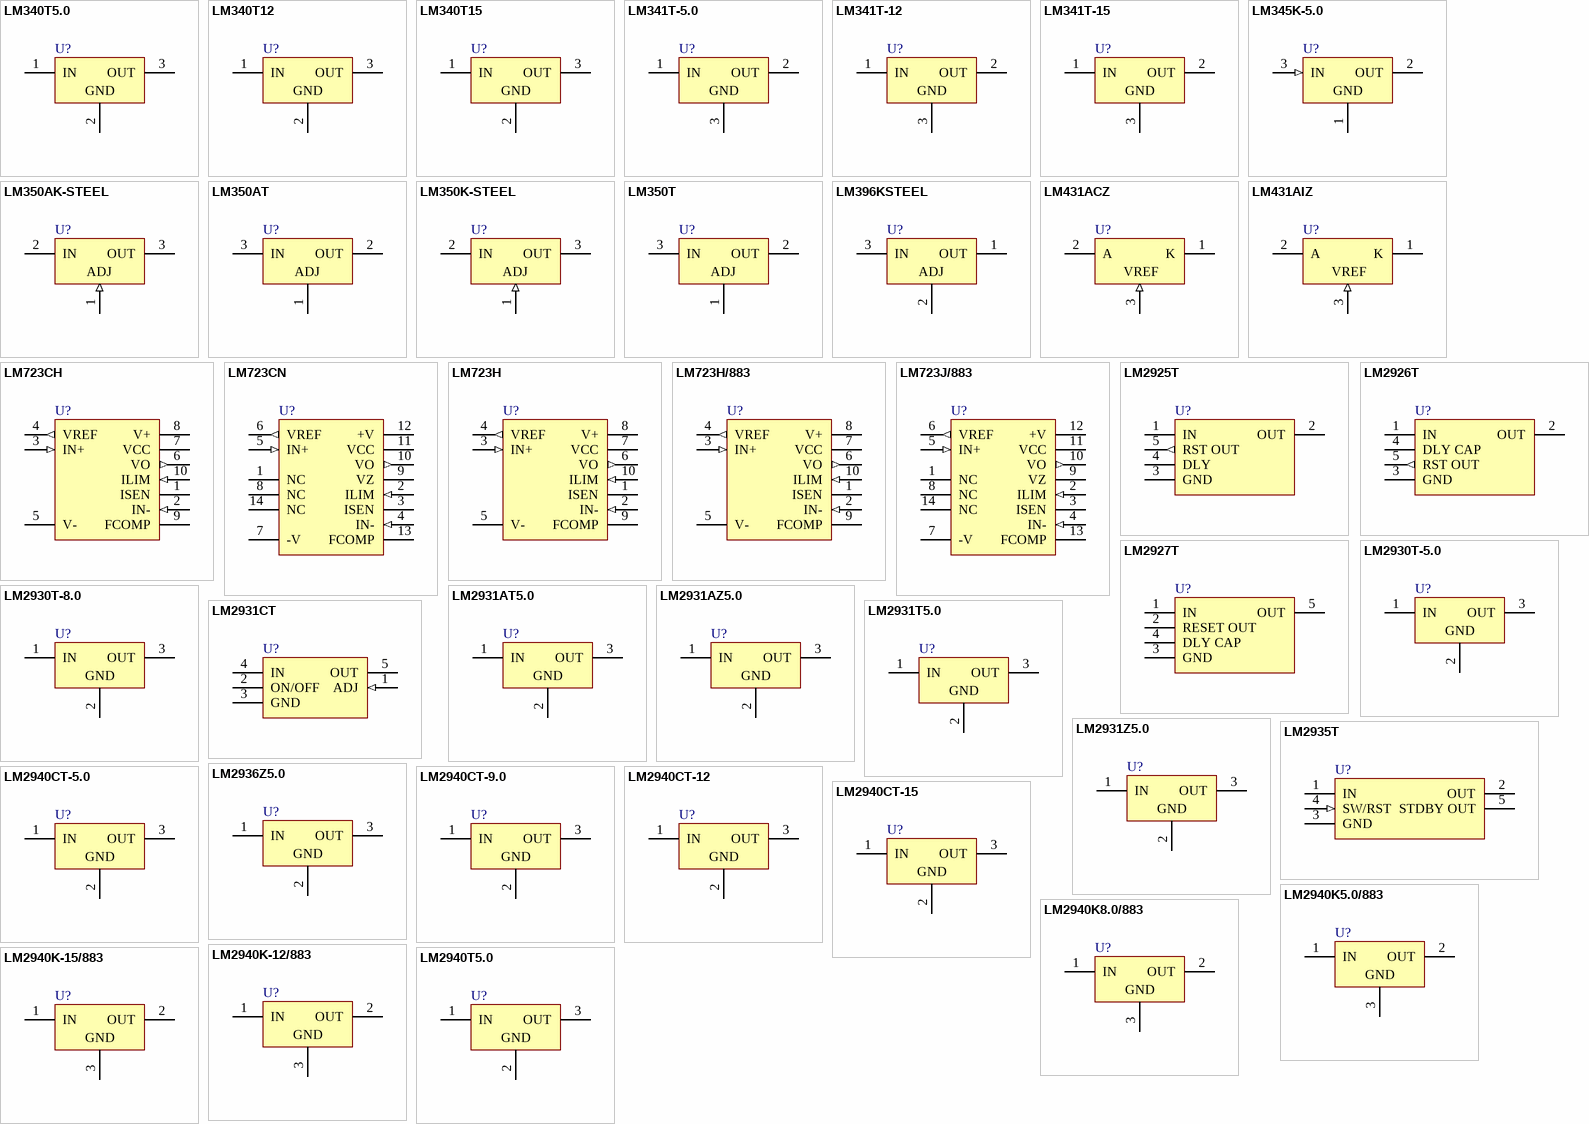
[diagram p3: symbols LM340T5.0 to LM2940T5.0]

## LM340T5.0
designator U?
Series 3-Terminal Positive Regulator; Manufacturer: National Semiconductor; Class: Power Management; SubClass: Voltage Regulator; Note: Tab is connected to GND; Published: 15/04/2002; Publisher: Altium Hobart Technology Centre
footprint SFM-T3/A4.7V
pins: 1 IN (power), 2 GND (power), 3 OUT (power)

## LM340T12
designator U?
Series 3-Terminal Positive Regulator; Manufacturer: National Semiconductor; Class: Power Management; SubClass: Voltage Regulator; Note: Tab is connected to GND; Published: 15/04/2002; Publisher: Altium Hobart Technology Centre
footprint SFM-T3/A4.7V
pins: 1 IN (power), 2 GND (power), 3 OUT (power)

## LM340T15
designator U?
Series 3-Terminal Positive Regulator; Manufacturer: National Semiconductor; Class: Power Management; SubClass: Voltage Regulator; Note: Tab is connected to GND; Published: 15/04/2002; Publisher: Altium Hobart Technology Centre
footprint SFM-T3/A4.7V
pins: 1 IN (power), 2 GND (power), 3 OUT (power)

## LM341T-5.0
designator U?
3-Terminal Positive Voltage Regulator; Manufacturer: National Semiconductor; Class: Power Management; Note: Tab is connected to GND; Published: 15/04/2002; Publisher: Altium Hobart Technology Centre; SubClass: Voltage Regulator
footprint SFM-T3/A4.7V
pins: 1 IN (power), 2 OUT (power), 3 GND (power)

## LM341T-12
designator U?
3-Terminal Positive Voltage Regulator; Manufacturer: National Semiconductor; Class: Power Management; Note: Tab is connected to GND; Published: 15/04/2002; Publisher: Altium Hobart Technology Centre; SubClass: Voltage Regulator
footprint SFM-T3/A4.7V
pins: 1 IN (power), 2 OUT (power), 3 GND (power)

## LM341T-15
designator U?
3-Terminal Positive Voltage Regulator; Manufacturer: National Semiconductor; Class: Power Management; Note: Tab is connected to GND; Published: 15/04/2002; Publisher: Altium Hobart Technology Centre; SubClass: Voltage Regulator
footprint SFM-T3/A4.7V
pins: 1 IN (power), 2 OUT (power), 3 GND (power)

## LM345K-5.0
designator U?
Negative Three Amp Regulator; Manufacturer: National Semiconductor; Class: Power Management; SubClass: Voltage Regulator; Note: Case is Input; Published: 15/04/2002; Publisher: Altium Hobart Technology Centre
footprint MBFM-P2/P7.25
pins: 1 GND (power), 2 OUT (power), 3 IN (in)

## LM350AK-STEEL
designator U?
5 Amp Adjustable Regulator; Manufacturer: National Semiconductor; Class: Power Management; SubClass: Voltage Regulator; Note: Case is Output; Published: 15/04/2002; Publisher: Altium Hobart Technology Centre
footprint MBFM-P2/P7.25
pins: 1 ADJ (in), 2 IN (power), 3 OUT (power)

## LM350AT
designator U?
3 Amp Adjustable Regulator; Manufacturer: National Semiconductor; Class: Power Management; SubClass: Voltage Regulator; Note: Tab is connected to Vout; Published: 15/04/2002; Publisher: Altium Hobart Technology Centre
footprint SFM-T3/A4.7V
pins: 1 ADJ (power), 2 OUT (power), 3 IN (power)

## LM350K-STEEL
designator U?
3 Amp Adjustable Regulator; Manufacturer: National Semiconductor; Class: Power Management; SubClass: Voltage Regulator; Note: Case is Output.; Published: 15/04/2002; Publisher: Altium Hobart Technology Centre
footprint MBFM-P2/P7.25
pins: 1 ADJ (in), 2 IN (power), 3 OUT (power)

## LM350T
designator U?
3 Amp Adjustable Regulator; Manufacturer: National Semiconductor; Class: Power Management; SubClass: Voltage Regulator; Note: Tab is connected to Vout; Published: 15/04/2002; Publisher: Altium Hobart Technology Centre
footprint SFM-T3/A4.7V
pins: 1 ADJ (power), 2 OUT (power), 3 IN (power)

## LM396KSTEEL
designator U?
10 Amp Adjustable Voltage Regulator; Manufacturer: National Semiconductor; Class: Power Management; Published: 15/04/2002; Publisher: Altium Hobart Technology Centre; SubClass: Voltage Regulator
footprint MBFM-P2/R13
pins: 1 OUT (power), 2 ADJ (power), 3 IN (power)

## LM431ACZ
designator U?
Adjustable Precision Zener Shunt Regulator; Manufacturer: National Semiconductor; Class: Power Management; SubClass: Voltage Regulator; Published: 15/04/2002; Publisher: Altium Hobart Technology Centre
footprint BCY-W3/231
pins: 1 K (power), 2 A (power), 3 VREF (in)

## LM431AIZ
designator U?
Adjustable Precision Zener Shunt Regulator; Manufacturer: National Semiconductor; Class: Power Management; SubClass: Voltage Regulator; Published: 15/04/2002; Publisher: Altium Hobart Technology Centre
footprint BCY-W3/231
pins: 1 K (power), 2 A (power), 3 VREF (in)

## LM723CH
designator U?
Voltage Regulator; Manufacturer: National Semiconductor; Class: Power Management; Note: Case is connected to V-; Published: 15/04/2002; Publisher: Altium Hobart Technology Centre; SubClass: Voltage Regulator
footprint CAN-10/X1.4
pins: 1 ISEN, 2 IN- (in), 3 IN+ (in), 4 VREF (out), 5 V- (power), 6 VO (out), 7 VCC (power), 8 V+ (power), 9 FCOMP, 10 ILIM (in)

## LM723CN
designator U?
Voltage Regulator; Manufacturer: National Semiconductor; Class: Power Management; Published: 15/04/2002; Publisher: Altium Hobart Technology Centre; SubClass: Voltage Regulator
footprint DIP-14/D19.7
pins: 1 NC, 2 ILIM (in), 3 ISEN, 4 IN- (in), 5 IN+ (in), 6 VREF (out), 7 -V (power), 8 NC, 9 VZ, 10 VO (out), 11 VCC (power), 12 +V (power), 13 FCOMP, 14 NC

## LM723H
designator U?
Voltage Regulator; Manufacturer: National Semiconductor; Class: Power Management; Note: Case is connected to V-; Published: 15/04/2002; Publisher: Altium Hobart Technology Centre; SubClass: Voltage Regulator
footprint CAN-10/X1.4
pins: 1 ISEN, 2 IN- (in), 3 IN+ (in), 4 VREF (out), 5 V- (power), 6 VO (out), 7 VCC (power), 8 V+ (power), 9 FCOMP, 10 ILIM (in)

## LM723H/883
designator U?
Voltage Regulator; Manufacturer: National Semiconductor; Class: Power Management; Note: Case is connected to V-; Published: 15/04/2002; Publisher: Altium Hobart Technology Centre; SubClass: Voltage Regulator
footprint CAN-10/X1.4
pins: 1 ISEN, 2 IN- (in), 3 IN+ (in), 4 VREF (out), 5 V- (power), 6 VO (out), 7 VCC (power), 8 V+ (power), 9 FCOMP, 10 ILIM (in)

## LM723J/883
designator U?
Voltage Regulator; Manufacturer: National Semiconductor; Class: Power Management; Published: 15/04/2002; Publisher: Altium Hobart Technology Centre; SubClass: Voltage Regulator
footprint DIP-14
pins: 1 NC, 2 ILIM (in), 3 ISEN, 4 IN- (in), 5 IN+ (in), 6 VREF (out), 7 -V (power), 8 NC, 9 VZ, 10 VO (out), 11 VCC (power), 12 +V (power), 13 FCOMP, 14 NC

## LM2925T
designator U?
Low-Dropout Regulator with Delayed Reset; Manufacturer: National Semiconductor; Class: Power Management; SubClass: Voltage Regulator; Note: Tab is connected to GND; Published: 15/04/2002; Publisher: Altium Hobart Technology Centre
footprint SFM-T5/X1.4V
pins: 1 IN (power), 2 OUT (power), 3 GND (power), 4 DLY, 5 RST OUT (out)

## LM2926T
designator U?
Low-Dropout Regulator with Delayed Reset; Manufacturer: National Semiconductor; Class: Power Management; SubClass: Voltage Regulator; Note: Tab is connected to GND; Published: 15/04/2002; Publisher: Altium Hobart Technology Centre
footprint SFM-T5/X1.4V
pins: 1 IN (power), 2 OUT (power), 3 GND (power), 4 DLY CAP, 5 RST OUT (out)

## LM2927T
designator U?
Low-Dropout Regulator with Delayed Reset; Manufacturer: National Semiconductor; Class: Power Management; SubClass: Voltage Regulator; Note: Tab is connected to GND; Published: 15/04/2002; Publisher: Altium Hobart Technology Centre
footprint SFM-T5/X1.4V
pins: 1 IN (power), 2 RESET OUT (hiz), 3 GND (power), 4 DLY CAP, 5 OUT (power)

## LM2930T-5.0
designator U?
3-Terminal Positive Regulator; Manufacturer: National Semiconductor; Class: Power Management; SubClass: Voltage Regulator; Note: Tab is GND; Published: 15/04/2002; Publisher: Altium Hobart Technology Centre
footprint SFM-T3/A4.7V
pins: 1 IN (power), 2 GND (power), 3 OUT (power)

## LM2930T-8.0
designator U?
3-Terminal Positive Regulator; Manufacturer: National Semiconductor; Class: Power Management; SubClass: Voltage Regulator; Note: Tab is GND; Published: 15/04/2002; Publisher: Altium Hobart Technology Centre
footprint SFM-T3/A4.7V
pins: 1 IN (power), 2 GND (power), 3 OUT (power)

## LM2931AT5.0
designator U?
Series Low-Dropout Regulator; Manufacturer: National Semiconductor; Class: Power Management; SubClass: Voltage Regulator; Note: Tab is connected to GND; Published: 15/04/2002; Publisher: Altium Hobart Technology Centre
footprint SFM-T3/A4.7V
pins: 1 IN (power), 2 GND (power), 3 OUT (power)

## LM2931AZ5.0
designator U?
Series Low-Dropout Regulator; Manufacturer: National Semiconductor; Class: Power Management; SubClass: Voltage Regulator; Note: Tab is connected to GND; Published: 15/04/2002; Publisher: Altium Hobart Technology Centre
footprint BCY-W3/E3.7
pins: 1 IN (power), 2 GND (power), 3 OUT (power)

## LM2931CT
designator U?
Series Low-Dropout Regulator; Manufacturer: National Semiconductor; Class: Power Management; SubClass: Voltage Regulator; Note: Tab is connected to GND; Published: 15/04/2002; Publisher: Altium Hobart Technology Centre
footprint SFM-T5/X1.4V
pins: 1 ADJ (in), 2 ON/OFF (power), 3 GND (power), 4 IN (power), 5 OUT (power)

## LM2931T5.0
designator U?
Series Low-Dropout Regulator; Manufacturer: National Semiconductor; Class: Power Management; SubClass: Voltage Regulator; Note: Tab is connected to GND; Published: 15/04/2002; Publisher: Altium Hobart Technology Centre
footprint SFM-T3/A4.7V
pins: 1 IN (power), 2 GND (power), 3 OUT (power)

## LM2931Z5.0
designator U?
Series Low-Dropout Regulator; Manufacturer: National Semiconductor; Class: Power Management; SubClass: Voltage Regulator; Note: Tab is connected to GND; Published: 15/04/2002; Publisher: Altium Hobart Technology Centre
footprint BCY-W3/E3.7
pins: 1 IN (power), 2 GND (power), 3 OUT (power)

## LM2935T
designator U?
Low-Dropout Dual Regulator; Manufacturer: National Semiconductor; Class: Power Management; SubClass: Voltage Regulator; Note: Tab is connected to GND; Published: 15/04/2002; Publisher: Altium Hobart Technology Centre
footprint SFM-T5/X1.4V
pins: 1 IN (power), 2 OUT (power), 3 GND (power), 4 SW/RST (in), 5 STDBY OUT (power)

## LM2936Z5.0
designator U?
Ultra Low Quiescent Current 5V Regulator; Manufacturer: National Semiconductor; Class: Power Management; SubClass: Voltage Regulator; Published: 15/04/2002; Publisher: Altium Hobart Technology Centre
footprint BCY-W3/E3.7
pins: 1 IN (power), 2 GND (power), 3 OUT (power)

## LM2940CT-5.0
designator U?
1A Low-Dropout Regulator; Manufacturer: National Semiconductor; Class: Power Management; SubClass: Voltage Regulator; Note: Tab is connected to GND; Published: 15/04/2002; Publisher: Altium Hobart Technology Centre
footprint SFM-T3/A4.7V
pins: 1 IN (power), 2 GND (power), 3 OUT (power)